# EAGLE library part LPC4300_TFBGA100 (library LPC4300)
TFBGA100 - SOT926-1 TFBGA100: plastic thin fine-pitch ball grid array package; 100 balls body 9 x 9 x 0.7 mm; Solderland 0.40 mm diameter Grid 0.8 x 0.8 mm
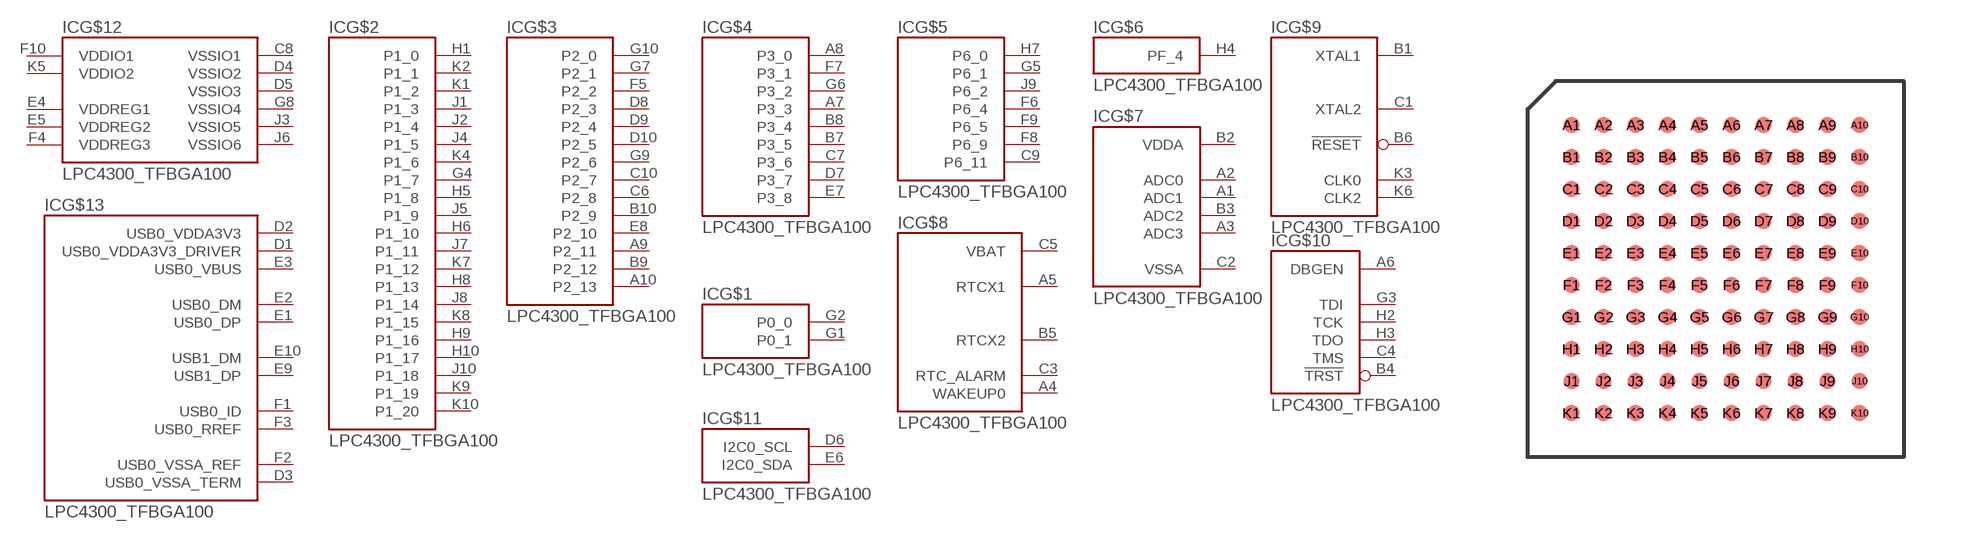
[diagram p1: symbol with the pads of TFBGA100; footprint TFBGA100]

Designator prefix IC; gates G$1=100_1_PORT0 G$2=100_2_PORT1 G$3=100_3_PORT2 G$4=100_4_PORT3 G$5=100_7_PORT6 G$6=100_16_PORTF G$7=100_17_ANA G$8=100_18_RTC G$9=100_19_CLK G$10=100_20_DBUG G$11=100_21_I2C G$12=100_22_SUP G$13=100_23_USB

## LPC4300_TFBGA100  [TFBGA100]
A1  G$7:ADC1  in
A2  G$7:ADC0  in
A3  G$7:ADC3  in
A4  G$8:WAKEUP0  in
A5  G$8:RTCX1  in
A6  G$10:DBGEN  in
A7  G$4:P3_3
A8  G$4:P3_0
A9  G$3:P2_11
A10  G$3:P2_13
B1  G$9:XTAL1  in
B2  G$7:VDDA  sup
B3  G$7:ADC2  in
B4  G$10:!TRST
B5  G$8:RTCX2  out
B6  G$9:!RESET  in
B7  G$4:P3_5
B8  G$4:P3_4
B9  G$3:P2_12
B10  G$3:P2_9
C1  G$9:XTAL2  out
C2  G$7:VSSA  sup
C3  G$8:RTC_ALARM  out
C4  G$10:TMS
C5  G$8:VBAT  pwr
C6  G$3:P2_8
C7  G$4:P3_6
C8  G$12:VSSIO1  sup
C9  G$5:P6_11
C10  G$3:P2_7
D1  G$13:USB0_VDDA3V3_DRIVER
D2  G$13:USB0_VDDA3V3
D3  G$13:USB0_VSSA_TERM
D4  G$12:VSSIO2  sup
D5  G$12:VSSIO3  sup
D6  G$11:I2C0_SCL
D7  G$4:P3_7
D8  G$3:P2_3
D9  G$3:P2_4
D10  G$3:P2_5
E1  G$13:USB0_DP
E2  G$13:USB0_DM
E3  G$13:USB0_VBUS
E4  G$12:VDDREG1  sup
E5  G$12:VDDREG2  sup
E6  G$11:I2C0_SDA
E7  G$4:P3_8
E8  G$3:P2_10
E9  G$13:USB1_DP
E10  G$13:USB1_DM
F1  G$13:USB0_ID
F2  G$13:USB0_VSSA_REF
F3  G$13:USB0_RREF
F4  G$12:VDDREG3  sup
F5  G$3:P2_2
F6  G$5:P6_4
F7  G$4:P3_1
F8  G$5:P6_9
F9  G$5:P6_5
F10  G$12:VDDIO1  sup
G1  G$1:P0_1
G2  G$1:P0_0
G3  G$10:TDI
G4  G$2:P1_7
G5  G$5:P6_1
G6  G$4:P3_2
G7  G$3:P2_1
G8  G$12:VSSIO4  sup
G9  G$3:P2_6
G10  G$3:P2_0
H1  G$2:P1_0
H2  G$10:TCK
H3  G$10:TDO
H4  G$6:PF_4
H5  G$2:P1_8
H6  G$2:P1_10
H7  G$5:P6_0
H8  G$2:P1_13
H9  G$2:P1_16
H10  G$2:P1_17
J1  G$2:P1_3
J2  G$2:P1_4
J3  G$12:VSSIO5  sup
J4  G$2:P1_5
J5  G$2:P1_9
J6  G$12:VSSIO6  sup
J7  G$2:P1_11
J8  G$2:P1_14
J9  G$5:P6_2
J10  G$2:P1_18
K1  G$2:P1_2
K2  G$2:P1_1
K3  G$9:CLK0  out
K4  G$2:P1_6
K5  G$12:VDDIO2  sup
K6  G$9:CLK2  out
K7  G$2:P1_12
K8  G$2:P1_15
K9  G$2:P1_19
K10  G$2:P1_20

## Footprint TFBGA100 (pad centres in mm)
TFBGA100 - SOT926-1 TFBGA100: plastic thin fine-pitch ball grid array package; 100 balls body 9 x 9 x 0.7 mm; Solderland 0.40 mm diameter Grid 0.8 x 0.8 mm
smd 0.4 x 0.4: A1 -3.6,3.6; A2 -2.8,3.6; A3 -2,3.6; A4 -1.2,3.6; A5 -0.4,3.6; A6 0.4,3.6; A7 1.2,3.6; A8 2,3.6; A9 2.8,3.6; A10 3.6,3.6; B1 -3.6,2.8; B2 -2.8,2.8; B3 -2,2.8; B4 -1.2,2.8; B5 -0.4,2.8; B6 0.4,2.8; B7 1.2,2.8; B8 2,2.8; B9 2.8,2.8; B10 3.6,2.8; C1 -3.6,2; C2 -2.8,2; C3 -2,2; C4 -1.2,2; C5 -0.4,2; C6 0.4,2; C7 1.2,2; C8 2,2; C9 2.8,2; C10 3.6,2; D1 -3.6,1.2; D2 -2.8,1.2; D3 -2,1.2; D4 -1.2,1.2; D5 -0.4,1.2; D6 0.4,1.2; D7 1.2,1.2; D8 2,1.2; D9 2.8,1.2; D10 3.6,1.2; E1 -3.6,0.4; E2 -2.8,0.4; E3 -2,0.4; E4 -1.2,0.4; E5 -0.4,0.4; E6 0.4,0.4; E7 1.2,0.4; E8 2,0.4; E9 2.8,0.4; E10 3.6,0.4; F1 -3.6,-0.4; F2 -2.8,-0.4; F3 -2,-0.4; F4 -1.2,-0.4; F5 -0.4,-0.4; F6 0.4,-0.4; F7 1.2,-0.4; F8 2,-0.4; F9 2.8,-0.4; F10 3.6,-0.4; G1 -3.6,-1.2; G2 -2.8,-1.2; G3 -2,-1.2; G4 -1.2,-1.2; G5 -0.4,-1.2; G6 0.4,-1.2; G7 1.2,-1.2; G8 2,-1.2; G9 2.8,-1.2; G10 3.6,-1.2; H1 -3.6,-2; H2 -2.8,-2; H3 -2,-2; H4 -1.2,-2; H5 -0.4,-2; H6 0.4,-2; H7 1.2,-2; H8 2,-2; H9 2.8,-2; H10 3.6,-2; J1 -3.6,-2.8; J2 -2.8,-2.8; J3 -2,-2.8; J4 -1.2,-2.8; J5 -0.4,-2.8; J6 0.4,-2.8; J7 1.2,-2.8; J8 2,-2.8; J9 2.8,-2.8; J10 3.6,-2.8; K1 -3.6,-3.6; K2 -2.8,-3.6; K3 -2,-3.6; K4 -1.2,-3.6; K5 -0.4,-3.6; K6 0.4,-3.6; K7 1.2,-3.6; K8 2,-3.6; K9 2.8,-3.6; K10 3.6,-3.6